# EAGLE library part DIP_SW_4 (library drag-custom)
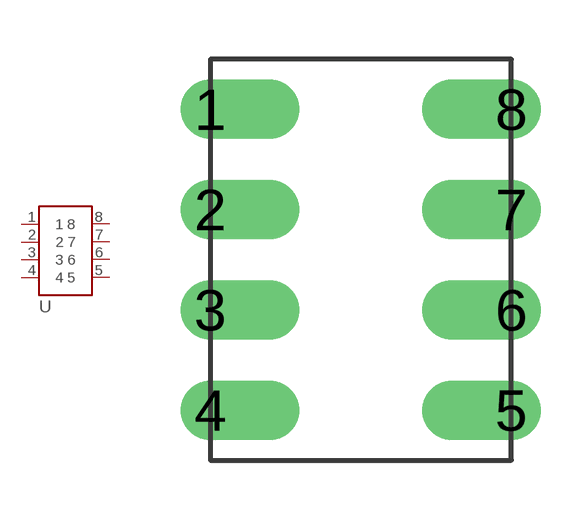
[diagram p1: symbol with the pads of DIP_SW_4; footprint DIP_SW_4]

Designator prefix -

## DIP_SW_4  [DIP_SW_4]
1  1
2  2
3  3
4  4
5  5
6  6
7  7
8  8

## Footprint DIP_SW_4 (pad centres in mm)
drill 1 pad 1.27 offset: 1 -3.81,3.81; 2 -3.81,1.27; 3 -3.81,-1.27; 4 -3.81,-3.81; 5 3.81,-3.81; 6 3.81,-1.27; 7 3.81,1.27; 8 3.81,3.81